# Altium footprint library 2512 Package.PcbLib: 3 footprints
Each footprint in its own frame and in the unit in brackets; x right, y up, seen from the top. Pads: shape width x height; smd on the part's side, far side on the other; paste and mask are expansions set on the pad; w line width, h text height; cw(c..) or ccw(c..) is an arc to the next point about the centre after c.
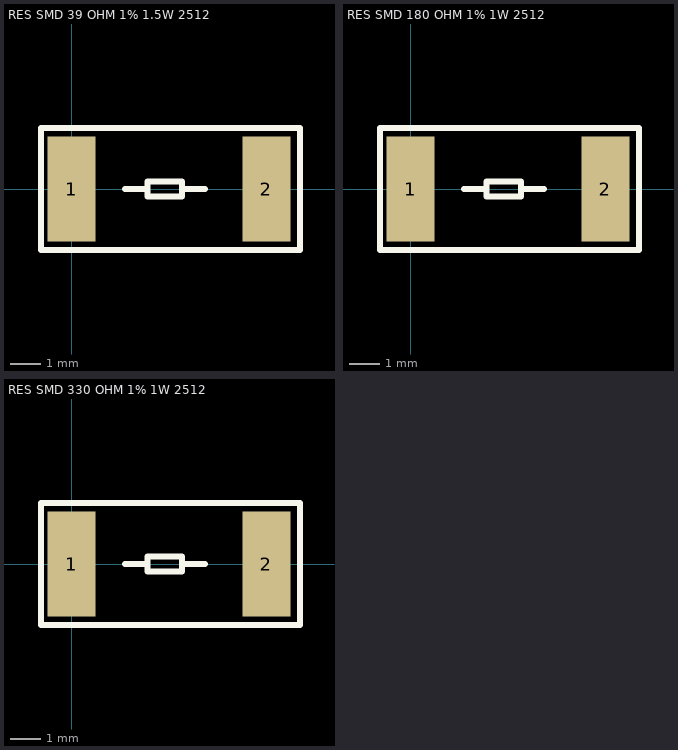
[diagram p0: the footprints below, top view; thin cyan lines are the x and y axes]

## RES SMD 39 OHM 1% 1.5W 2512 [mm] "39 Ohms ±1% 1.5W Chip Resistor 2512 (6432 Metric) Automotive AEC-Q200, Pulse Withstanding Thick Film"
pads (2):
  rect 1.6x3.5 smd: 1(0,0) 2(6.5,0)
Top Overlay:
  lines w0.2: 1.778,0 2.54,0 ; 3.683,0 4.318,0 4.445,0 ; 2.54,0 2.54,-0.254 3.683,-0.254 3.683,0.254 2.54,0.254 2.54,0 ; -1.016,-2.032 -1.016,2.032 7.493,2.032 7.62,2.032 7.62,-2.032 -1.016,-2.032
3D body "Resistor 2512.step": height 0.61, standoff 0.01, extent 0.102,-1.6 6.502,1.6

## RES SMD 180 OHM 1% 1W 2512 [mm] "180 Ohms ±5% 1W Chip Resistor 2512 (6432 Metric) Automotive AEC-Q200 Thick Film"
pads (2):
  rect 1.6x3.5 smd: 1(0,0) 2(6.5,0)
Top Overlay:
  lines w0.2: 1.778,0 2.54,0 ; 3.683,0 4.318,0 4.445,0 ; 2.54,0 2.54,0.254 3.683,0.254 3.683,-0.254 2.54,-0.254 2.54,0 ; -1.016,-2.032 7.62,-2.032 7.62,2.032 7.493,2.032 -1.016,2.032 -1.016,-2.032
3D body "Resistor 2512.step": height 0.61, standoff 0.01, extent 0.102,-1.6 6.502,1.6

## RES SMD 330 OHM 1% 1W 2512 [mm] "330 Ohms ±5% 1W Chip Resistor 2512 (6432 Metric) Automotive AEC-Q200 Thick Film"
pads (2):
  rect 1.6x3.5 smd: 1(0,0) 2(6.5,0)
Top Overlay:
  lines w0.2: 1.778,0 2.54,0 ; 3.683,0 4.318,0 4.445,0 ; 2.54,0 2.54,0.254 3.683,0.254 3.683,-0.254 2.54,-0.254 2.54,0 ; -1.016,-2.032 7.62,-2.032 7.62,2.032 7.493,2.032 -1.016,2.032 -1.016,-2.032
3D body "Resistor 2512.step": height 0.61, standoff 0.01, extent 0.102,-1.6 6.502,1.6